# Altium footprint library 基于STM32的DDS信号源电路.PcbLib: 18 footprints (part 2 of 2)
Each footprint in its own frame and in the unit in brackets; x right, y up, seen from the top. Pads: shape width x height; smd on the part's side, far side on the other; paste and mask are expansions set on the pad; w line width, h text height; cw(c..) or ccw(c..) is an arc to the next point about the centre after c.
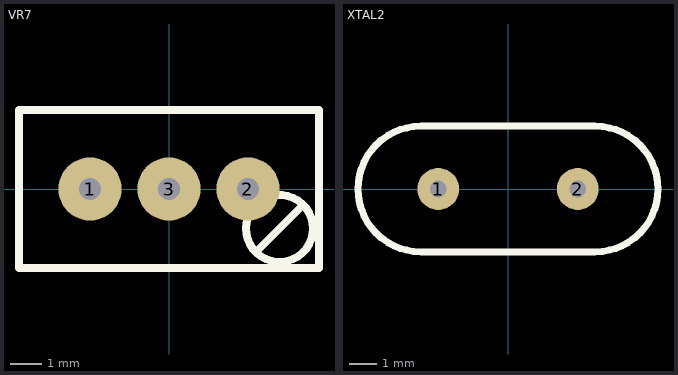
[diagram p1: the footprints below, top view; thin cyan lines are the x and y axes]

## VR7 [mil]
height 27.56
pads (3):
  round 80 hole 28: 1(-100,0) 2(100,0) 3(0,0)
Top Overlay:
  circle w10: c140,-50 r42.43
  lines w10: 110,-80 170,-20 ; -190,-100 -190,100 190,100 190,-100 -190,-100

## XTAL2 [mil]
height 27.56
pads (2):
  round 60 hole 24: 1(-100,0) 2(100,0)
Top Overlay:
  lines w10: -125,-90 cw(c-125,0) -125,90 125,90 cw(c125,0) 125,-90 -125,-90